# Altium schematic symbol library Конденсатор - обозначение.SchLib: 1 symbol
Pins are listed as number, name and electrical type; pins without a type are passive.

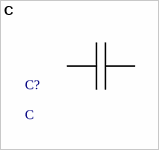
[diagram p0: symbol С]

## С
designator C?
pins: 2, 3